# EAGLE library part 828-AG12D-ES-LF (library 828-AG12D-ES-LF)
Row Spacing 2.54 mm Pitch Through Hole Dip Socket Check availability <https://pricing.snapeda.com/parts/828-AG12D-ES-LF/TE%20Connectivity/view-part?ref=eda>
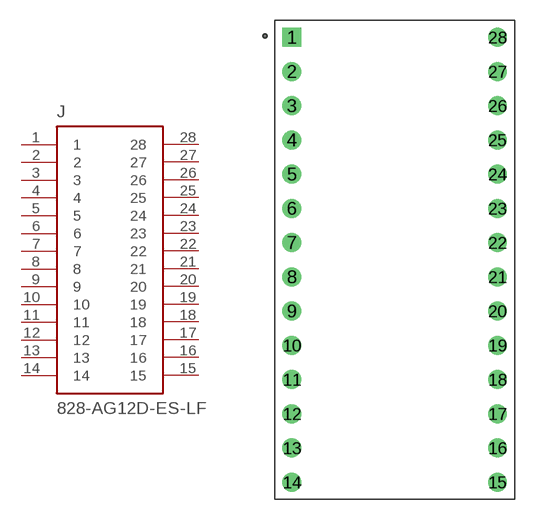
[diagram p0: symbol with the pads of TE_1571552-9; footprint TE_1571552-9]

Designator prefix J

## 828-AG12D-ES-LF (Availability: In Stock; Comment: 1571552-9; Description: Conn DIP Socket SKT 28 POS 2.54mm Solder ST Thru-Hole Tube; MF: TE Connectivity; MP: 828-AG12D-ES-LF; Package: None; Price: None; Purchase-URL: https://pricing.snapeda.com/search/part/828-AG12D-ES-LF/?ref=eda)  [TE_1571552-9]
1  1  pas
2  2  pas
3  3  pas
4  4  pas
5  5  pas
6  6  pas
7  7  pas
8  8  pas
9  9  pas
10  10  pas
11  11  pas
12  12  pas
13  13  pas
14  14  pas
15  15  pas
16  16  pas
17  17  pas
18  18  pas
19  19  pas
20  20  pas
21  21  pas
22  22  pas
23  23  pas
24  24  pas
25  25  pas
26  26  pas
27  27  pas
28  28  pas

## Footprint TE_1571552-9 (pad centres in mm)
drill 0.889 square: 1 -7.62,15.24
drill 0.889: 2 -7.62,12.7; 3 -7.62,10.16; 4 -7.62,7.62; 5 -7.62,5.08; 6 -7.62,2.54; 7 -7.62,0; 8 -7.62,-2.54; 9 -7.62,-5.08; 10 -7.62,-7.62; 11 -7.62,-10.16; 12 -7.62,-12.7; 13 -7.62,-15.24; 14 -7.62,-17.78; 15 7.62,-17.78; 16 7.62,-15.24; 17 7.62,-12.7; 18 7.62,-10.16; 19 7.62,-7.62; 20 7.62,-5.08; 21 7.62,-2.54; 22 7.62,0; 23 7.62,2.54; 24 7.62,5.08; 25 7.62,7.62; 26 7.62,10.16; 27 7.62,12.7; 28 7.62,15.24